# Altium schematic symbol library Diode_On_Semiconductor_BAT54C.SchLib: 1 symbol
Pins are listed as number, name and electrical type; pins without a type are passive.

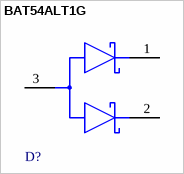
[diagram p0: symbol BAT54ALT1G]

## BAT54ALT1G
designator D?  (value not drawn)
pins: 1 1 CATHODE, 2 2 CATHODE, 3 A